# Altium footprint library WE-PD2_4532.PcbLib: 1 footprints
Each footprint in its own frame and in the unit in brackets; x right, y up, seen from the top. Pads: shape width x height; smd on the part's side, far side on the other; paste and mask are expansions set on the pad; w line width, h text height; cw(c..) or ccw(c..) is an arc to the next point about the centre after c.
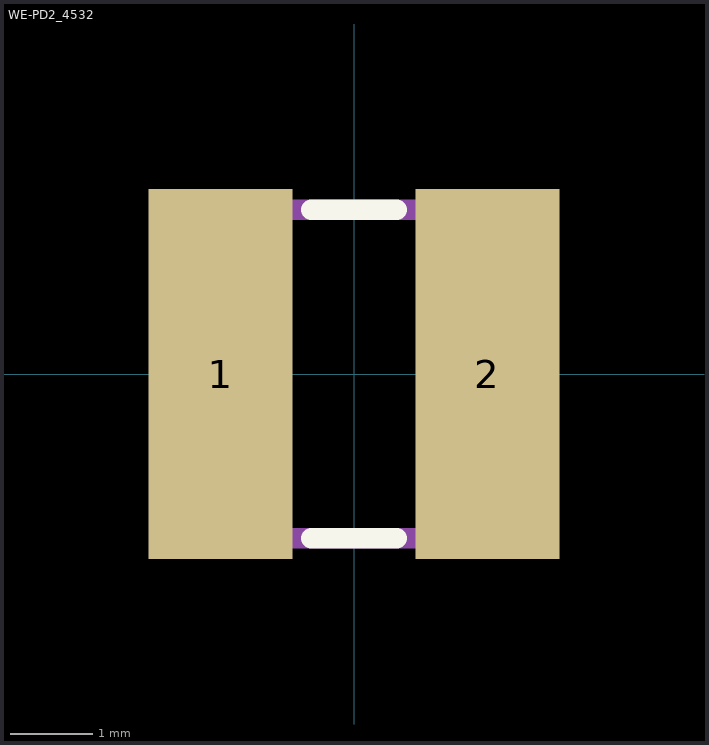
[diagram p0: the footprint, top view; thin cyan lines are the x and y axes]

## WE-PD2_4532 [mm] "SMD Power Inductor, size 4532, body 4.5x4.0mm"
height 3.2
pads (2):
  rect 1.75x4.5 smd: 1(-1.625,0) 2(1.625,0)
Top Overlay:
  lines w0.254: -0.52,-2 0.52,-2 ; -0.52,2 0.52,2
Mechanical 13:
  lines w0.254: -2.25,-2 -2.25,2 2.25,2 2.25,-2 -2.25,-2
3D body "IndPD2_4532_744773xx.stp": height 3.2, standoff 0.02, extent -2.25,-2 2.25,2